# Altium schematic symbol library kmilo17pet-TI_LDO_400_7500.SchLib: 1409 symbols (part 6 of 60)
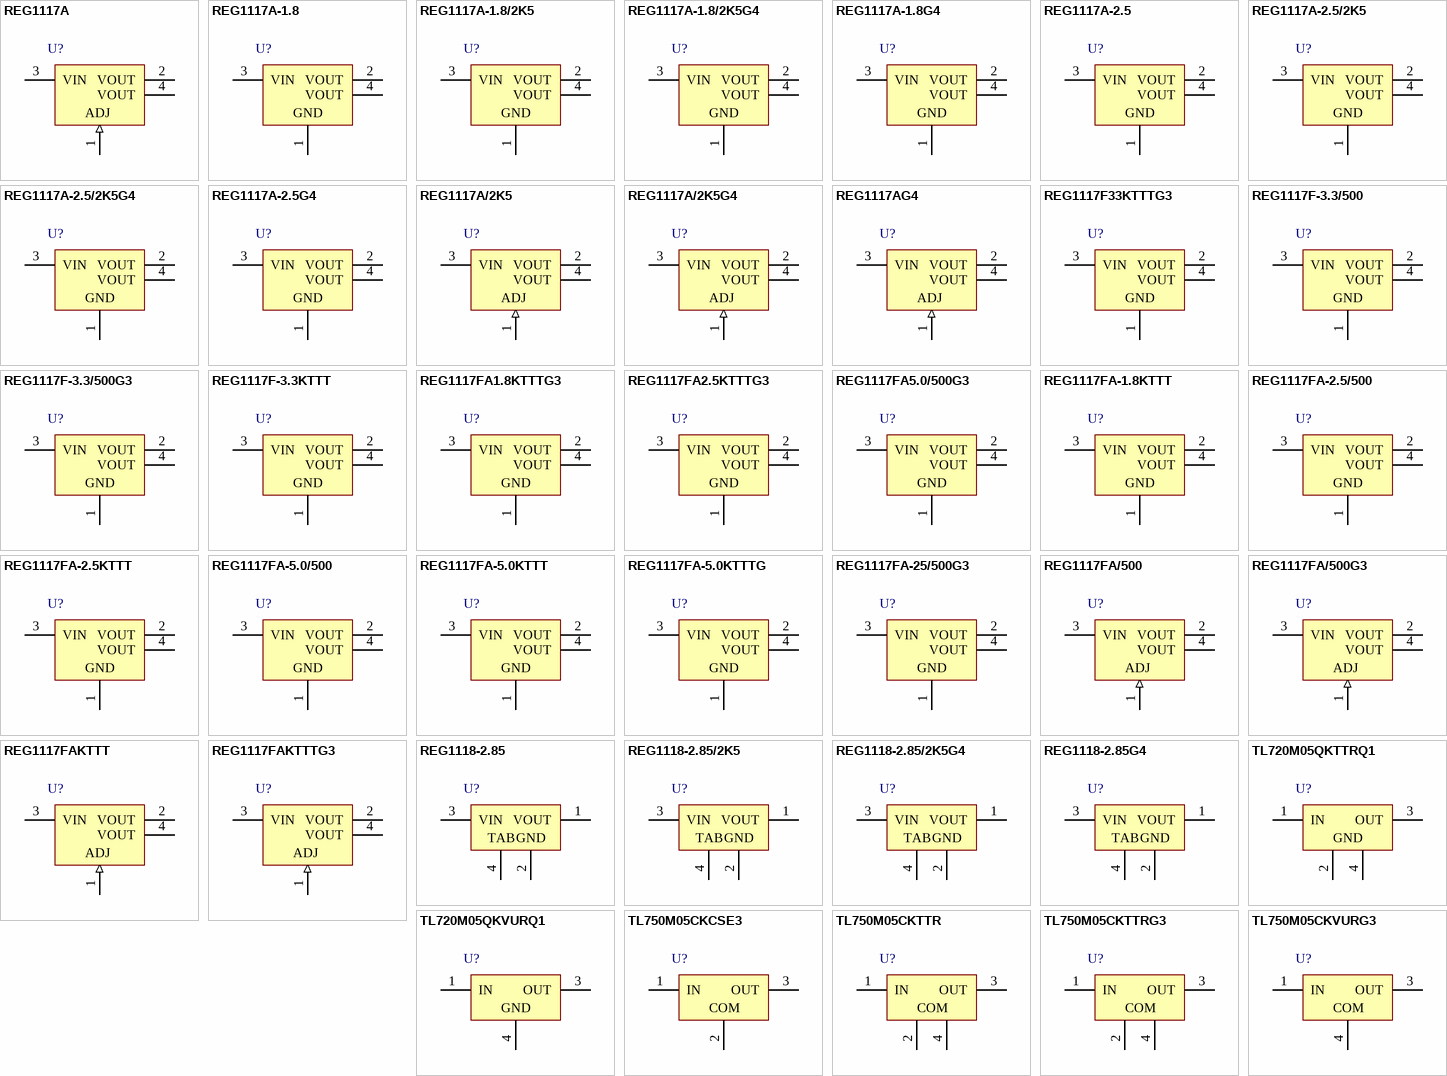
[diagram p55: symbols REG1117A to TL750M05CKVURG3]

## TL720M05QKVURQ1
designator U?
Single Output Automotive LDO, 700 mA, Fixed 5 V Output, 5.5 to 42 V Input, 3-pin PFM (KVU), -40 to 125 degC, Green (RoHS & no Sb/Br); Manufacturer: Texas Instruments; PartNumber: TL720M05QKVURQ1; Accuracy(%): 3; Fixed Output Options(V): 5; Iout(Max)(A): 0.7; Iq(Typ)(mA): 12; SubFamily: Single Channel LDO; Vdo(Typ)(mV): 250; Vin(Max)(V): 42; Vin(Min)(V): 5.5; DatasheetVersion: SGLS380D; PackageVersion: 4205521-2/D; PackageReference: KVU3; PackageDescription: 3-Pin Plastic Flange Mount, Body 6.1 x 6.6 mm, Pitch 2.29 mm; Supplier 1: Digi-Key; Supplier Part Number 1: 296-24509-2-ND; Supplier 2: Digi-Key; Supplier Part Number 2: 296-24509-1-ND; Supplier 3: Digi-Key; Supplier Part Number 3: 296-24509-6-ND; Supplier 4: Newark; Supplier Part Number 4: 09R6518; Supplier 5: Mouser; Supplier Part Number 5: 595-TL720M05QKVURQ1; Eco-Plan: Green (RoHS & no Sb/Br); Vout Adj(Max)(V): 5; Vout Adj(Min)(V): 5; Mounting Technology: Surface Mount; Code_JEDEC: TO-252; ComponentLink1Description: Manufacturer URL; ComponentLink1URL: http://www.ti.com/; ComponentLink2Description: Datasheet; ComponentLink2URL: http://www.ti.com/general/docs/lit/getliterature.tsp?genericPartNumber=TL720M05-Q1&fileType=pdf; ComponentLink3Description: Package Specification; ComponentLink3URL: http://www.ti.com/litv/pdf/mpsf018c
footprint TI-KVU3_N (DPAK, 3-Leads, Body 6.6x6.1mm, Pitch 2.29mm, IPC Medium Density)
footprint TI-KVU3_L (DPAK, 3-Leads, Body 6.6x6.1mm, Pitch 2.29mm, IPC High Density)
footprint TI-KVU3_M (DPAK, 3-Leads, Body 6.6x6.1mm, Pitch 2.29mm, IPC Low Density)
pins: 1 IN (power) "Input voltage. Connect to ground as close to device as possible, through a ceramic capacitor.", 3 OUT (power) "Output. Connect to ground with >=22-uF capacitor, ESR < 5 Ohm at 10 kHz.", 4 GND (power) "Ground. Internally connected to heatsink"

## TL750M05CKCSE3
designator U?
Single Output LDO, 750 mA, Fixed 5 V Output, 6 to 26 V Input, with Low IQ, 3-pin TO-220 (KCS), 0 to 125 degC, Pb-Free (RoHS); Manufacturer: Texas Instruments; PartNumber: TL750M05CKCSE3; Accuracy(%): 2; Fixed Output Options(V): 5; Iout(Max)(A): 0.75; Iq(Typ)(mA): 60; Rating: Catalog; SubFamily: Single Channel LDO; Vdo(Typ)(mV): 600; Vin(Max)(V): 26; Vin(Min)(V): 6; DatasheetVersion: SLVS021N; PackageVersion: 4204749/E; PackageReference: KCS3; PackageDescription: 3-Pin Plastic Flange Mount; Supplier 1: Digi-Key; Supplier Part Number 1: 296-21594-5-ND; Supplier 2: Newark; Supplier Part Number 2: 10M0609; Supplier 3: Mouser; Supplier Part Number 3: 595-TL750M05CKCSE3; Eco-Plan: Pb-Free (RoHS); Vout Adj(Max)(V): 5; Vout Adj(Min)(V): 5; Mounting Technology: Through Hole; Code_JEDEC: TO-220; ComponentLink1Description: Manufacturer URL; ComponentLink1URL: http://www.ti.com/; ComponentLink2Description: Datasheet; ComponentLink2URL: http://www.ti.com/general/docs/lit/getliterature.tsp?genericPartNumber=TL750M05&fileType=pdf; ComponentLink3Description: Package Specification; ComponentLink3URL: http://www.ti.com/litv/pdf/mpsf017d; ComponentLink4Description: URL Link1; ComponentLink4URL: Samples URL:http://www.ti.com/product/tl750m05#samples
footprint TI-KCS3 (Flange Mount, 3-Leads, Body 10.16x4.51mm, Pitch 2.54mm)
pins: 1 IN (power), 2 COM (power), 3 OUT (power)

## TL750M05CKTTR
designator U?
Single Output LDO, 750 mA, Fixed 5 V Output, 6 to 26 V Input, with Low IQ, 3-pin DDPAK (KTT), 0 to 125 degC, Green (RoHS & no Sb/Br); Manufacturer: Texas Instruments; PartNumber: TL750M05CKTTR; Accuracy(%): 2; Fixed Output Options(V): 5; Iout(Max)(A): 0.75; Iq(Typ)(mA): 60; Rating: Catalog; SubFamily: Single Channel LDO; Vdo(Typ)(mV): 600; Vin(Max)(V): 26; Vin(Min)(V): 6; DatasheetVersion: SLVS021N; PackageVersion: 4200577-2/F; PackageReference: KTT3; PackageDescription: 3-Pin Plastic Flange Mount, Body 10.16 x 10.43 mm, Pitch 2.54 mm; Supplier 1: Digi-Key; Supplier Part Number 1: 296-20776-2-ND; Supplier 2: Digi-Key; Supplier Part Number 2: 296-20776-1-ND; Supplier 3: Digi-Key; Supplier Part Number 3: 296-20776-6-ND; Supplier 4: Newark; Supplier Part Number 4: 18M3189; Supplier 5: Mouser; Supplier Part Number 5: 595-TL750M05CKTTR; Eco-Plan: Green (RoHS & no Sb/Br); Vout Adj(Max)(V): 5; Vout Adj(Min)(V): 5; Mounting Technology: Surface Mount; Code_JEDEC: TO-263; ComponentLink1Description: Manufacturer URL; ComponentLink1URL: http://www.ti.com/; ComponentLink2Description: Datasheet; ComponentLink2URL: http://www.ti.com/general/docs/lit/getliterature.tsp?genericPartNumber=TL750M05&fileType=pdf; ComponentLink3Description: Package Specification; ComponentLink3URL: http://www.ti.com/litv/pdf/mpsf006e; ComponentLink4Description: URL Link1; ComponentLink4URL: Samples URL:http://www.ti.com/product/tl750m05#samples
footprint TI-KTT3_N (DPAK, 3-Leads, Body 10.16x9.015mm, Pitch 2.54mm, IPC Medium Density)
footprint TI-KTT3_L (DPAK, 3-Leads, Body 10.16x9.015mm, Pitch 2.54mm, IPC High Density)
footprint TI-KTT3_M (DPAK, 3-Leads, Body 10.16x9.015mm, Pitch 2.54mm, IPC Low Density)
pins: 1 IN (power), 2 COM (power), 3 OUT (power), 4 COM (power)

## TL750M05CKTTRG3
designator U?
Single Output LDO, 750 mA, Fixed 5 V Output, 6 to 26 V Input, with Low IQ, 3-pin DDPAK (KTT), 0 to 125 degC, Green (RoHS & no Sb/Br); Manufacturer: Texas Instruments; PartNumber: TL750M05CKTTRG3; Accuracy(%): 2; Fixed Output Options(V): 5; Iout(Max)(A): 0.75; Iq(Typ)(mA): 60; Rating: Catalog; SubFamily: Single Channel LDO; Vdo(Typ)(mV): 600; Vin(Max)(V): 26; Vin(Min)(V): 6; DatasheetVersion: SLVS021N; PackageVersion: 4200577-2/F; PackageReference: KTT3; PackageDescription: 3-Pin Plastic Flange Mount, Body 10.16 x 10.43 mm, Pitch 2.54 mm; Supplier 1: Digi-Key; Supplier Part Number 1: TL750M05CKTTRG3-ND; Supplier 2: Mouser; Supplier Part Number 2: 595-TL750M05CKTTRG3; Eco-Plan: Green (RoHS & no Sb/Br); Vout Adj(Max)(V): 5; Vout Adj(Min)(V): 5; Mounting Technology: Surface Mount; Code_JEDEC: TO-263; ComponentLink1Description: Manufacturer URL; ComponentLink1URL: http://www.ti.com/; ComponentLink2Description: Datasheet; ComponentLink2URL: http://www.ti.com/general/docs/lit/getliterature.tsp?genericPartNumber=TL750M05&fileType=pdf; ComponentLink3Description: Package Specification; ComponentLink3URL: http://www.ti.com/litv/pdf/mpsf006e; ComponentLink4Description: URL Link1; ComponentLink4URL: Samples URL:http://www.ti.com/product/tl750m05#samples
footprint TI-KTT3_N (DPAK, 3-Leads, Body 10.16x9.015mm, Pitch 2.54mm, IPC Medium Density)
footprint TI-KTT3_L (DPAK, 3-Leads, Body 10.16x9.015mm, Pitch 2.54mm, IPC High Density)
footprint TI-KTT3_M (DPAK, 3-Leads, Body 10.16x9.015mm, Pitch 2.54mm, IPC Low Density)
pins: 1 IN (power), 2 COM (power), 3 OUT (power), 4 COM (power)

## TL750M05CKVURG3
designator U?
Single Output LDO, 750 mA, Fixed 5 V Output, 6 to 26 V Input, with Low IQ, 3-pin PFM (KVU), 0 to 125 degC, Green (RoHS & no Sb/Br); Manufacturer: Texas Instruments; PartNumber: TL750M05CKVURG3; Accuracy(%): 2; Fixed Output Options(V): 5; Iout(Max)(A): 0.75; Iq(Typ)(mA): 60; Rating: Catalog; SubFamily: Single Channel LDO; Vdo(Typ)(mV): 600; Vin(Max)(V): 26; Vin(Min)(V): 6; DatasheetVersion: SLVS021N; PackageVersion: 4205521-2/D; PackageReference: KVU3; PackageDescription: 3-Pin Plastic Flange Mount, Body 6.1 x 6.6 mm, Pitch 2.29 mm; Supplier 1: Digi-Key; Supplier Part Number 1: 296-21595-2-ND; Supplier 2: Digi-Key; Supplier Part Number 2: 296-21595-1-ND; Supplier 3: Digi-Key; Supplier Part Number 3: 296-21595-6-ND; Supplier 4: Newark; Supplier Part Number 4: 10M0610; Supplier 5: Mouser; Supplier Part Number 5: 595-TL750M05CKVURG3; Eco-Plan: Green (RoHS & no Sb/Br); Vout Adj(Max)(V): 5; Vout Adj(Min)(V): 5; Mounting Technology: Surface Mount; Code_JEDEC: TO-252; ComponentLink1Description: Manufacturer URL; ComponentLink1URL: http://www.ti.com/; ComponentLink2Description: Datasheet; ComponentLink2URL: http://www.ti.com/general/docs/lit/getliterature.tsp?genericPartNumber=TL750M05&fileType=pdf; ComponentLink3Description: Package Specification; ComponentLink3URL: http://www.ti.com/litv/pdf/mpsf018c; ComponentLink4Description: URL Link1; ComponentLink4URL: Samples URL:http://www.ti.com/product/tl750m05#samples
footprint TI-KVU3_N (DPAK, 3-Leads, Body 6.6x6.1mm, Pitch 2.29mm, IPC Medium Density)
footprint TI-KVU3_L (DPAK, 3-Leads, Body 6.6x6.1mm, Pitch 2.29mm, IPC High Density)
footprint TI-KVU3_M (DPAK, 3-Leads, Body 6.6x6.1mm, Pitch 2.29mm, IPC Low Density)
pins: 1 IN (power), 3 OUT (power), 4 COM (power)

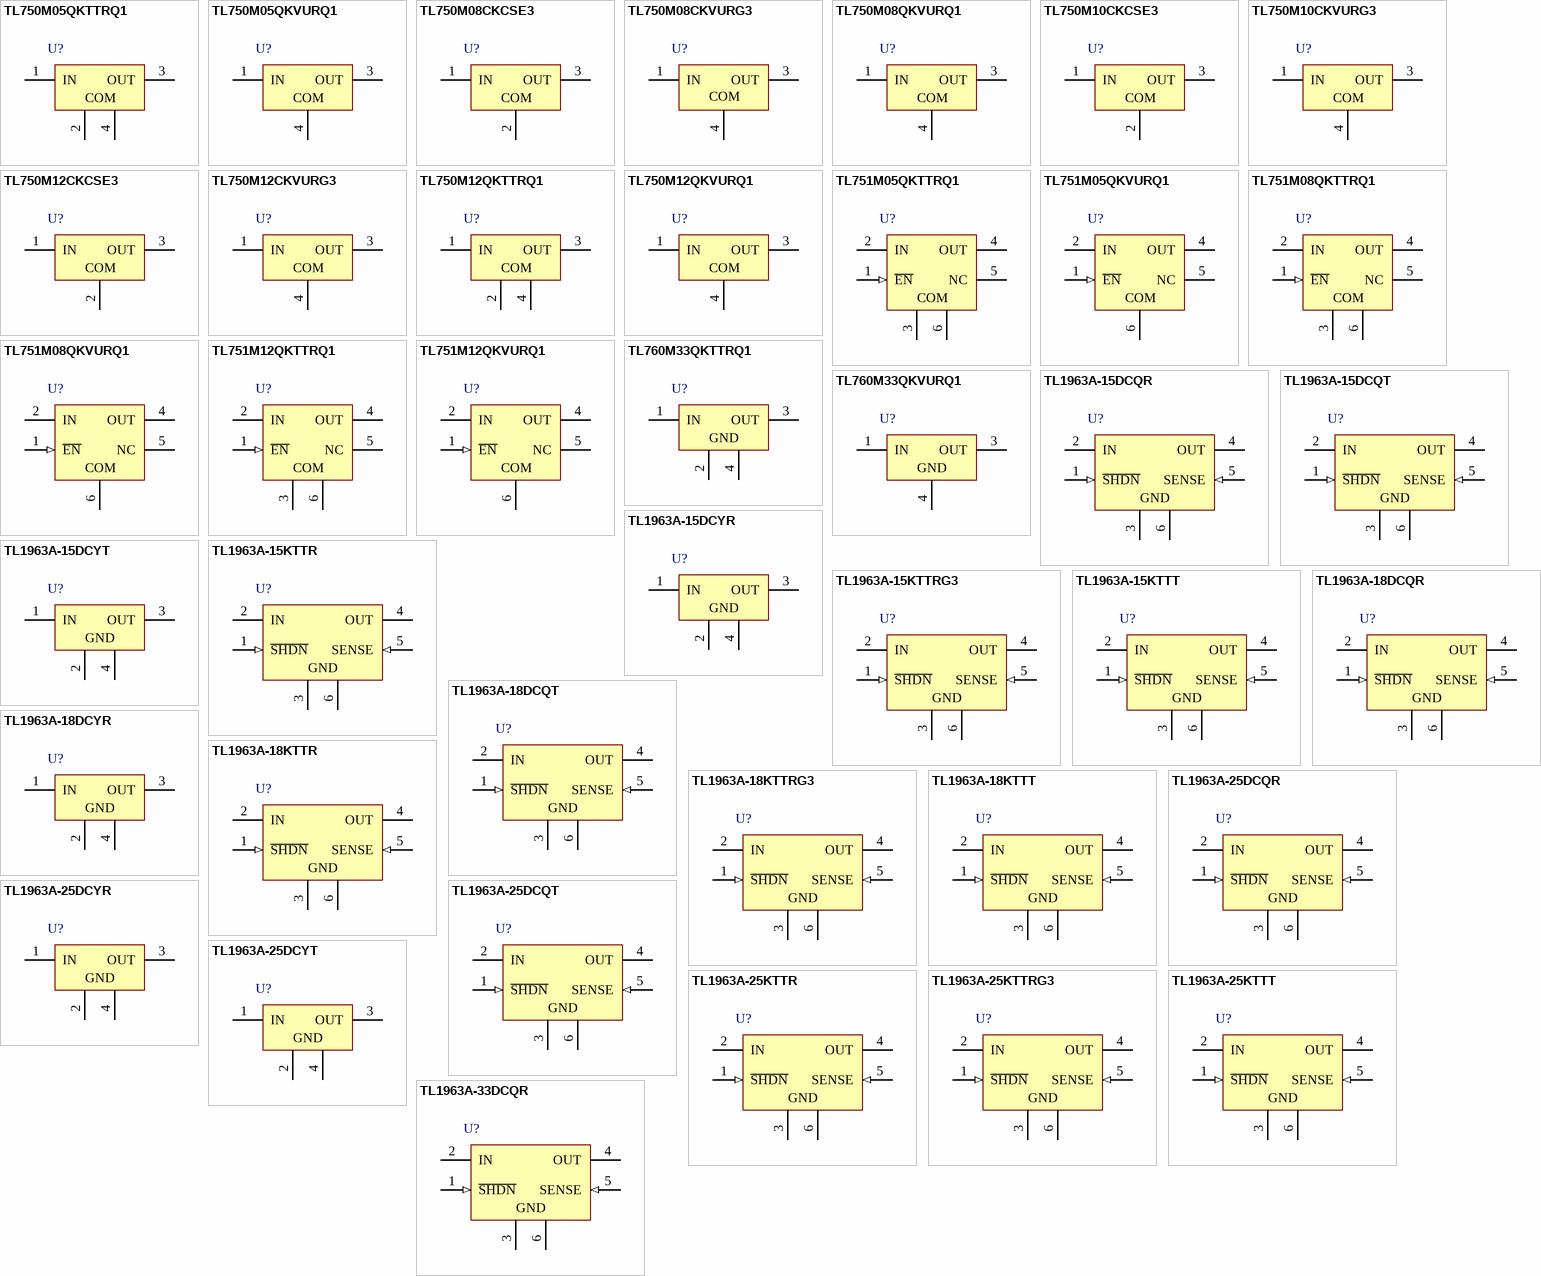
[diagram p4: symbols TL750M05QKTTRQ1 to TL1963A-33DCQR]

## TL750M05QKTTRQ1
designator U?
Single Output Automotive LDO, 750 mA, Fixed 5 V Output, 6 to 26 V Input, with Low IQ, 3-pin DDPAK (KTT), -40 to 125 degC, Green (RoHS & no Sb/Br); Manufacturer: Texas Instruments; PartNumber: TL750M05QKTTRQ1; Iout(Max)(A): 0.75; Iq(Typ)(mA): 60; SubFamily: Single Channel LDO; Vdo(Typ)(mV): 600; Vin(Max)(V): 26; Vin(Min)(V): 6; Vout Adj(Max)(V): 5; DatasheetVersion: SGLS312J; PackageVersion: 4200577-2/F; PackageReference: KTT3; PackageDescription: 3-Pin Plastic Flange Mount, Body 10.16 x 10.43 mm, Pitch 2.54 mm; Supplier 1: Digi-Key; Supplier Part Number 1: 296-31951-2-ND; Supplier 2: Digi-Key; Supplier Part Number 2: 296-31951-1-ND; Supplier 3: Digi-Key; Supplier Part Number 3: 296-31951-6-ND; Supplier 4: Mouser; Supplier Part Number 4: 595-TL750M05QKTTRQ1; Eco-Plan: Green (RoHS & no Sb/Br); Rating: Automotive; Vout Adj(Min)(V): 5; Mounting Technology: Surface Mount; Code_JEDEC: TO-263; ComponentLink1Description: Manufacturer URL; ComponentLink1URL: http://www.ti.com/; ComponentLink2Description: Datasheet; ComponentLink2URL: http://www.ti.com/general/docs/lit/getliterature.tsp?genericPartNumber=TL750M05-Q1&fileType=pdf; ComponentLink3Description: Package Specification; ComponentLink3URL: http://www.ti.com/litv/pdf/mpsf006e; ComponentLink4Description: URL Link1; ComponentLink4URL: Samples URL:http://www.ti.com/product/tl750m05-q1#samples
footprint TI-KTT3_N (DPAK, 3-Leads, Body 10.16x9.015mm, Pitch 2.54mm, IPC Medium Density)
footprint TI-KTT3_L (DPAK, 3-Leads, Body 10.16x9.015mm, Pitch 2.54mm, IPC High Density)
footprint TI-KTT3_M (DPAK, 3-Leads, Body 10.16x9.015mm, Pitch 2.54mm, IPC Low Density)
pins: 1 IN (power), 2 COM (power), 3 OUT (power), 4 COM (power)

## TL750M05QKVURQ1
designator U?
Single Output Automotive LDO, 750 mA, Fixed 5 V Output, 6 to 26 V Input, with Low IQ, 3-pin PFM (KVU), -40 to 125 degC, Green (RoHS & no Sb/Br); Manufacturer: Texas Instruments; PartNumber: TL750M05QKVURQ1; Iout(Max)(A): 0.75; Iq(Typ)(mA): 60; SubFamily: Single Channel LDO; Vdo(Typ)(mV): 600; Vin(Max)(V): 26; Vin(Min)(V): 6; Vout Adj(Max)(V): 5; DatasheetVersion: SGLS312J; PackageVersion: 4205521-2/D; PackageReference: KVU3; PackageDescription: 3-Pin Plastic Flange Mount, Body 6.1 x 6.6 mm, Pitch 2.29 mm; Supplier 1: Digi-Key; Supplier Part Number 1: 296-27381-2-ND; Supplier 2: Digi-Key; Supplier Part Number 2: 296-27381-1-ND; Supplier 3: Digi-Key; Supplier Part Number 3: 296-27381-6-ND; Supplier 4: Newark; Supplier Part Number 4: 72R6605; Supplier 5: Mouser; Supplier Part Number 5: 595-TL750M05QKVURQ1; Eco-Plan: Green (RoHS & no Sb/Br); Rating: Automotive; Vout Adj(Min)(V): 5; Mounting Technology: Surface Mount; Code_JEDEC: TO-252; ComponentLink1Description: Manufacturer URL; ComponentLink1URL: http://www.ti.com/; ComponentLink2Description: Datasheet; ComponentLink2URL: http://www.ti.com/general/docs/lit/getliterature.tsp?genericPartNumber=TL750M05-Q1&fileType=pdf; ComponentLink3Description: Package Specification; ComponentLink3URL: http://www.ti.com/litv/pdf/mpsf018c; ComponentLink4Description: URL Link1; ComponentLink4URL: Samples URL:http://www.ti.com/product/tl750m05-q1#samples
footprint TI-KVU3_N (DPAK, 3-Leads, Body 6.6x6.1mm, Pitch 2.29mm, IPC Medium Density)
footprint TI-KVU3_L (DPAK, 3-Leads, Body 6.6x6.1mm, Pitch 2.29mm, IPC High Density)
footprint TI-KVU3_M (DPAK, 3-Leads, Body 6.6x6.1mm, Pitch 2.29mm, IPC Low Density)
pins: 1 IN (power), 3 OUT (power), 4 COM (power)

## TL750M08CKCSE3
designator U?
Single Output LDO, 750 mA, Fixed 8 V Output, 9 to 26 V Input, with Low IQ, 3-pin TO-220 (KCS), 0 to 125 degC, Pb-Free (RoHS); Manufacturer: Texas Instruments; PartNumber: TL750M08CKCSE3; Accuracy(%): 2; Fixed Output Options(V): 8; Iout(Max)(A): 0.75; Iq(Typ)(mA): 60; Rating: Catalog; SubFamily: Single Channel LDO; Vdo(Typ)(mV): 600; Vin(Max)(V): 26; Vin(Min)(V): 9; DatasheetVersion: SLVS021N; PackageVersion: 4204749/E; PackageReference: KCS3; PackageDescription: 3-Pin Plastic Flange Mount; Supplier 1: Digi-Key; Supplier Part Number 1: 296-21596-5-ND; Supplier 2: Newark; Supplier Part Number 2: 10M0611; Supplier 3: Mouser; Supplier Part Number 3: 595-TL750M08CKCSE3; Eco-Plan: Pb-Free (RoHS); Vout Adj(Max)(V): 8; Vout Adj(Min)(V): 8; Mounting Technology: Through Hole; Code_JEDEC: TO-220; ComponentLink1Description: Manufacturer URL; ComponentLink1URL: http://www.ti.com/; ComponentLink2Description: Datasheet; ComponentLink2URL: http://www.ti.com/general/docs/lit/getliterature.tsp?genericPartNumber=TL750M08&fileType=pdf; ComponentLink3Description: Package Specification; ComponentLink3URL: http://www.ti.com/litv/pdf/mpsf017d; ComponentLink4Description: URL Link1; ComponentLink4URL: Samples URL:http://www.ti.com/product/tl750m08#samples
footprint TI-KCS3 (Flange Mount, 3-Leads, Body 10.16x4.51mm, Pitch 2.54mm)
pins: 1 IN (power), 2 COM (power), 3 OUT (power)

## TL750M08CKVURG3
designator U?
Single Output LDO, 750 mA, Fixed 8 V Output, 9 to 26 V Input, with Low IQ, 3-pin PFM (KVU), 0 to 125 degC, Green (RoHS & no Sb/Br); Manufacturer: Texas Instruments; PartNumber: TL750M08CKVURG3; Accuracy(%): 2; Fixed Output Options(V): 8; Iout(Max)(A): 0.75; Iq(Typ)(mA): 60; Rating: Catalog; SubFamily: Single Channel LDO; Vdo(Typ)(mV): 600; Vin(Max)(V): 26; Vin(Min)(V): 9; DatasheetVersion: SLVS021N; PackageVersion: 4205521-2/D; PackageReference: KVU3; PackageDescription: 3-Pin Plastic Flange Mount, Body 6.1 x 6.6 mm, Pitch 2.29 mm; Supplier 1: Digi-Key; Supplier Part Number 1: 296-21597-2-ND; Supplier 2: Digi-Key; Supplier Part Number 2: 296-21597-1-ND; Supplier 3: Digi-Key; Supplier Part Number 3: 296-21597-6-ND; Supplier 4: Mouser; Supplier Part Number 4: 595-TL750M08CKVURG3; Eco-Plan: Green (RoHS & no Sb/Br); Vout Adj(Max)(V): 8; Vout Adj(Min)(V): 8; Mounting Technology: Surface Mount; Code_JEDEC: TO-252; ComponentLink1Description: Manufacturer URL; ComponentLink1URL: http://www.ti.com/; ComponentLink2Description: Datasheet; ComponentLink2URL: http://www.ti.com/general/docs/lit/getliterature.tsp?genericPartNumber=TL750M08&fileType=pdf; ComponentLink3Description: Package Specification; ComponentLink3URL: http://www.ti.com/litv/pdf/mpsf018c; ComponentLink4Description: URL Link1; ComponentLink4URL: Samples URL:http://www.ti.com/product/tl750m08#samples
footprint TI-KVU3_N (DPAK, 3-Leads, Body 6.6x6.1mm, Pitch 2.29mm, IPC Medium Density)
footprint TI-KVU3_L (DPAK, 3-Leads, Body 6.6x6.1mm, Pitch 2.29mm, IPC High Density)
footprint TI-KVU3_M (DPAK, 3-Leads, Body 6.6x6.1mm, Pitch 2.29mm, IPC Low Density)
pins: 1 IN (power), 3 OUT (power), 4 COM (power)

## TL750M08QKVURQ1
designator U?
Single Output Automotive LDO, 750 mA, Fixed 8 V Output, 9 to 26 V Input, with Low IQ, 3-pin PFM (KVU), -40 to 125 degC, Green (RoHS & no Sb/Br); Manufacturer: Texas Instruments; PartNumber: TL750M08QKVURQ1; Fixed Output Options(V): 8; Iout(Max)(A): 0.75; Iq(Typ)(mA): 60; SubFamily: Single Channel LDO; Vdo(Typ)(mV): 600; Vin(Max)(V): 26; Vin(Min)(V): 9; DatasheetVersion: SGLS312J; PackageVersion: 4205521-2/D; PackageReference: KVU3; PackageDescription: 3-Pin Plastic Flange Mount, Body 6.1 x 6.6 mm, Pitch 2.29 mm; Supplier 1: Digi-Key; Supplier Part Number 1: 296-27382-2-ND; Supplier 2: Digi-Key; Supplier Part Number 2: 296-27382-1-ND; Supplier 3: Digi-Key; Supplier Part Number 3: 296-27382-6-ND; Supplier 4: Newark; Supplier Part Number 4: 72R6606; Supplier 5: Mouser; Supplier Part Number 5: 595-TL750M08QKVURQ1; Eco-Plan: Green (RoHS & no Sb/Br); Rating: Automotive; Vout Adj(Max)(V): 8; Vout Adj(Min)(V): 8; Mounting Technology: Surface Mount; Code_JEDEC: TO-252; ComponentLink1Description: Manufacturer URL; ComponentLink1URL: http://www.ti.com/; ComponentLink2Description: Datasheet; ComponentLink2URL: http://www.ti.com/general/docs/lit/getliterature.tsp?genericPartNumber=TL750M08-Q1&fileType=pdf; ComponentLink3Description: Package Specification; ComponentLink3URL: http://www.ti.com/litv/pdf/mpsf018c; ComponentLink4Description: URL Link1; ComponentLink4URL: Samples URL:http://www.ti.com/product/tl750m08-q1#samples
footprint TI-KVU3_N (DPAK, 3-Leads, Body 6.6x6.1mm, Pitch 2.29mm, IPC Medium Density)
footprint TI-KVU3_L (DPAK, 3-Leads, Body 6.6x6.1mm, Pitch 2.29mm, IPC High Density)
footprint TI-KVU3_M (DPAK, 3-Leads, Body 6.6x6.1mm, Pitch 2.29mm, IPC Low Density)
pins: 1 IN (power), 3 OUT (power), 4 COM (power)

## TL750M10CKCSE3
designator U?
Single Output LDO, 750 mA, Fixed 10 V Output, 11 to 26 V Input, with Low IQ, 3-pin TO-220 (KCS), 0 to 125 degC, Pb-Free (RoHS); Manufacturer: Texas Instruments; PartNumber: TL750M10CKCSE3; Accuracy(%): 2; Fixed Output Options(V): 10; Iout(Max)(A): 0.75; Iq(Typ)(mA): 60; Rating: Catalog; SubFamily: Single Channel LDO; Vdo(Typ)(mV): 600; Vin(Max)(V): 26; Vin(Min)(V): 11; DatasheetVersion: SLVS021N; PackageVersion: 4204749/E; PackageReference: KCS3; PackageDescription: 3-Pin Plastic Flange Mount; Supplier 1: Digi-Key; Supplier Part Number 1: 296-21598-5-ND; Supplier 2: Newark; Supplier Part Number 2: 99K4384; Supplier 3: Mouser; Supplier Part Number 3: 595-TL750M10CKCSE3; Eco-Plan: Pb-Free (RoHS); Vout Adj(Max)(V): 10; Vout Adj(Min)(V): 10; Mounting Technology: Through Hole; Code_JEDEC: TO-220; ComponentLink1Description: Manufacturer URL; ComponentLink1URL: http://www.ti.com/; ComponentLink2Description: Datasheet; ComponentLink2URL: http://www.ti.com/general/docs/lit/getliterature.tsp?genericPartNumber=TL750M10&fileType=pdf; ComponentLink3Description: Package Specification; ComponentLink3URL: http://www.ti.com/litv/pdf/mpsf017d; ComponentLink4Description: URL Link1; ComponentLink4URL: Samples URL:http://www.ti.com/product/tl750m10#samples
footprint TI-KCS3 (Flange Mount, 3-Leads, Body 10.16x4.51mm, Pitch 2.54mm)
pins: 1 IN (power), 2 COM (power), 3 OUT (power)

## TL750M10CKVURG3
designator U?
Single Output LDO, 750 mA, Fixed 10 V Output, 11 to 26 V Input, with Low IQ, 3-pin PFM (KVU), 0 to 125 degC, Green (RoHS & no Sb/Br); Manufacturer: Texas Instruments; PartNumber: TL750M10CKVURG3; Accuracy(%): 2; Fixed Output Options(V): 10; Iout(Max)(A): 0.75; Iq(Typ)(mA): 60; Rating: Catalog; SubFamily: Single Channel LDO; Vdo(Typ)(mV): 600; Vin(Max)(V): 26; Vin(Min)(V): 11; DatasheetVersion: SLVS021N; PackageVersion: 4205521-2/D; PackageReference: KVU3; PackageDescription: 3-Pin Plastic Flange Mount, Body 6.1 x 6.6 mm, Pitch 2.29 mm; Supplier 1: Digi-Key; Supplier Part Number 1: 296-21599-2-ND; Supplier 2: Digi-Key; Supplier Part Number 2: 296-21599-1-ND; Supplier 3: Digi-Key; Supplier Part Number 3: 296-21599-6-ND; Supplier 4: Newark; Supplier Part Number 4: 99K4385; Supplier 5: Mouser; Supplier Part Number 5: 595-TL750M10CKVURG3; Eco-Plan: Green (RoHS & no Sb/Br); Vout Adj(Max)(V): 10; Vout Adj(Min)(V): 10; Mounting Technology: Surface Mount; Code_JEDEC: TO-252; ComponentLink1Description: Manufacturer URL; ComponentLink1URL: http://www.ti.com/; ComponentLink2Description: Datasheet; ComponentLink2URL: http://www.ti.com/general/docs/lit/getliterature.tsp?genericPartNumber=TL750M10&fileType=pdf; ComponentLink3Description: Package Specification; ComponentLink3URL: http://www.ti.com/litv/pdf/mpsf018c; ComponentLink4Description: URL Link1; ComponentLink4URL: Samples URL:http://www.ti.com/product/tl750m10#samples
footprint TI-KVU3_N (DPAK, 3-Leads, Body 6.6x6.1mm, Pitch 2.29mm, IPC Medium Density)
footprint TI-KVU3_L (DPAK, 3-Leads, Body 6.6x6.1mm, Pitch 2.29mm, IPC High Density)
footprint TI-KVU3_M (DPAK, 3-Leads, Body 6.6x6.1mm, Pitch 2.29mm, IPC Low Density)
pins: 1 IN (power), 3 OUT (power), 4 COM (power)

## TL750M12CKCSE3
designator U?
Single Output LDO, 750 mA, Fixed 12 V Output, 13 to 26 V Input, with Low IQ, 3-pin TO-220 (KCS), 0 to 125 degC, Pb-Free (RoHS); Manufacturer: Texas Instruments; PartNumber: TL750M12CKCSE3; Accuracy(%): 2; Fixed Output Options(V): 12; Iout(Max)(A): 0.75; Iq(Typ)(mA): 60; Rating: Catalog; SubFamily: Single Channel LDO; Vdo(Typ)(mV): 600; Vin(Max)(V): 26; Vin(Min)(V): 13; DatasheetVersion: SLVS021N; PackageVersion: 4204749/E; PackageReference: KCS3; PackageDescription: 3-Pin Plastic Flange Mount; Supplier 1: Digi-Key; Supplier Part Number 1: 296-21600-5-ND; Supplier 2: Newark; Supplier Part Number 2: 10M0613; Supplier 3: Mouser; Supplier Part Number 3: 595-TL750M12CKCSE3; Eco-Plan: Pb-Free (RoHS); Vout Adj(Max)(V): 12; Vout Adj(Min)(V): 12; Mounting Technology: Through Hole; Code_JEDEC: TO-220; ComponentLink1Description: Manufacturer URL; ComponentLink1URL: http://www.ti.com/; ComponentLink2Description: Datasheet; ComponentLink2URL: http://www.ti.com/general/docs/lit/getliterature.tsp?genericPartNumber=TL750M12&fileType=pdf; ComponentLink3Description: Package Specification; ComponentLink3URL: http://www.ti.com/litv/pdf/mpsf017d; ComponentLink4Description: URL Link1; ComponentLink4URL: Samples URL:http://www.ti.com/product/tl750m12#samples
footprint TI-KCS3 (Flange Mount, 3-Leads, Body 10.16x4.51mm, Pitch 2.54mm)
pins: 1 IN (power), 2 COM (power), 3 OUT (power)

## TL750M12CKVURG3
designator U?
Single Output LDO, 750 mA, Fixed 12 V Output, 13 to 26 V Input, with Low IQ, 3-pin PFM (KVU), 0 to 125 degC, Green (RoHS & no Sb/Br); Manufacturer: Texas Instruments; PartNumber: TL750M12CKVURG3; Accuracy(%): 2; Fixed Output Options(V): 12; Iout(Max)(A): 0.75; Iq(Typ)(mA): 60; Rating: Catalog; SubFamily: Single Channel LDO; Vdo(Typ)(mV): 600; Vin(Max)(V): 26; Vin(Min)(V): 13; DatasheetVersion: SLVS021N; PackageVersion: 4205521-2/D; PackageReference: KVU3; PackageDescription: 3-Pin Plastic Flange Mount, Body 6.1 x 6.6 mm, Pitch 2.29 mm; Supplier 1: Digi-Key; Supplier Part Number 1: 296-21601-2-ND; Supplier 2: Digi-Key; Supplier Part Number 2: 296-21601-1-ND; Supplier 3: Digi-Key; Supplier Part Number 3: 296-21601-6-ND; Supplier 4: Newark; Supplier Part Number 4: 10M0614; Supplier 5: Mouser; Supplier Part Number 5: 595-TL750M12CKVURG3; Eco-Plan: Green (RoHS & no Sb/Br); Vout Adj(Max)(V): 12; Vout Adj(Min)(V): 12; Mounting Technology: Surface Mount; Code_JEDEC: TO-252; ComponentLink1Description: Manufacturer URL; ComponentLink1URL: http://www.ti.com/; ComponentLink2Description: Datasheet; ComponentLink2URL: http://www.ti.com/general/docs/lit/getliterature.tsp?genericPartNumber=TL750M12&fileType=pdf; ComponentLink3Description: Package Specification; ComponentLink3URL: http://www.ti.com/litv/pdf/mpsf018c; ComponentLink4Description: URL Link1; ComponentLink4URL: Samples URL:http://www.ti.com/product/tl750m12#samples
footprint TI-KVU3_N (DPAK, 3-Leads, Body 6.6x6.1mm, Pitch 2.29mm, IPC Medium Density)
footprint TI-KVU3_L (DPAK, 3-Leads, Body 6.6x6.1mm, Pitch 2.29mm, IPC High Density)
footprint TI-KVU3_M (DPAK, 3-Leads, Body 6.6x6.1mm, Pitch 2.29mm, IPC Low Density)
pins: 1 IN (power), 3 OUT (power), 4 COM (power)

## TL750M12QKTTRQ1
designator U?
Single Output Automotive LDO, 750 mA, Fixed 12 V Output, 13 to 26 V Input, with Low IQ, 3-pin DDPAK (KTT), -40 to 125 degC, Green (RoHS & no Sb/Br); Manufacturer: Texas Instruments; PartNumber: TL750M12QKTTRQ1; Fixed Output Options(V): 12; Iout(Max)(A): 0.75; Iq(Typ)(mA): 60; SubFamily: Single Channel LDO; Vdo(Typ)(mV): 600; Vin(Max)(V): 26; Vin(Min)(V): 13; DatasheetVersion: SGLS312J; PackageVersion: 4200577-2/F; PackageReference: KTT3; PackageDescription: 3-Pin Plastic Flange Mount, Body 10.16 x 10.43 mm, Pitch 2.54 mm; Supplier 1: Digi-Key; Supplier Part Number 1: 296-27935-2-ND; Supplier 2: Digi-Key; Supplier Part Number 2: 296-27935-1-ND; Supplier 3: Digi-Key; Supplier Part Number 3: 296-27935-6-ND; Supplier 4: Mouser; Supplier Part Number 4: 595-TL750M12QKTTRQ1; Eco-Plan: Green (RoHS & no Sb/Br); Rating: Automotive; Vout Adj(Max)(V): 12; Vout Adj(Min)(V): 12; Mounting Technology: Surface Mount; Code_JEDEC: TO-263; ComponentLink1Description: Manufacturer URL; ComponentLink1URL: http://www.ti.com/; ComponentLink2Description: Datasheet; ComponentLink2URL: http://www.ti.com/general/docs/lit/getliterature.tsp?genericPartNumber=TL750M12-Q1&fileType=pdf; ComponentLink3Description: Package Specification; ComponentLink3URL: http://www.ti.com/litv/pdf/mpsf006e; ComponentLink4Description: URL Link1; ComponentLink4URL: Samples URL:http://www.ti.com/product/tl750m12-q1#samples
footprint TI-KTT3_N (DPAK, 3-Leads, Body 10.16x9.015mm, Pitch 2.54mm, IPC Medium Density)
footprint TI-KTT3_L (DPAK, 3-Leads, Body 10.16x9.015mm, Pitch 2.54mm, IPC High Density)
footprint TI-KTT3_M (DPAK, 3-Leads, Body 10.16x9.015mm, Pitch 2.54mm, IPC Low Density)
pins: 1 IN (power), 2 COM (power), 3 OUT (power), 4 COM (power)

## TL750M12QKVURQ1
designator U?
Single Output Automotive LDO, 750 mA, Fixed 12 V Output, 13 to 26 V Input, with Low IQ, 3-pin PFM (KVU), -40 to 125 degC, Green (RoHS & no Sb/Br); Manufacturer: Texas Instruments; PartNumber: TL750M12QKVURQ1; Fixed Output Options(V): 12; Iout(Max)(A): 0.75; Iq(Typ)(mA): 60; SubFamily: Single Channel LDO; Vdo(Typ)(mV): 600; Vin(Max)(V): 26; Vin(Min)(V): 13; DatasheetVersion: SGLS312J; PackageVersion: 4205521-2/D; PackageReference: KVU3; PackageDescription: 3-Pin Plastic Flange Mount, Body 6.1 x 6.6 mm, Pitch 2.29 mm; Supplier 1: Digi-Key; Supplier Part Number 1: 296-27429-2-ND; Supplier 2: Digi-Key; Supplier Part Number 2: 296-27429-1-ND; Supplier 3: Digi-Key; Supplier Part Number 3: 296-27429-6-ND; Supplier 4: Newark; Supplier Part Number 4: 79R8521; Supplier 5: Mouser; Supplier Part Number 5: 595-TL750M12QKVURQ1; Eco-Plan: Green (RoHS & no Sb/Br); Rating: Automotive; Vout Adj(Max)(V): 12; Vout Adj(Min)(V): 12; Mounting Technology: Surface Mount; Code_JEDEC: TO-252; ComponentLink1Description: Manufacturer URL; ComponentLink1URL: http://www.ti.com/; ComponentLink2Description: Datasheet; ComponentLink2URL: http://www.ti.com/general/docs/lit/getliterature.tsp?genericPartNumber=TL750M12-Q1&fileType=pdf; ComponentLink3Description: Package Specification; ComponentLink3URL: http://www.ti.com/litv/pdf/mpsf018c; ComponentLink4Description: URL Link1; ComponentLink4URL: Samples URL:http://www.ti.com/product/tl750m12-q1#samples
footprint TI-KVU3_N (DPAK, 3-Leads, Body 6.6x6.1mm, Pitch 2.29mm, IPC Medium Density)
footprint TI-KVU3_L (DPAK, 3-Leads, Body 6.6x6.1mm, Pitch 2.29mm, IPC High Density)
footprint TI-KVU3_M (DPAK, 3-Leads, Body 6.6x6.1mm, Pitch 2.29mm, IPC Low Density)
pins: 1 IN (power), 3 OUT (power), 4 COM (power)

## TL751M05QKTTRQ1
designator U?
Single Output Automotive LDO, 750 mA, Fixed 5 V Output, 6 to 26 V Input, 5-pin DDPAK (KTT), -40 to 125 degC, Green (RoHS & no Sb/Br); Manufacturer: Texas Instruments; PartNumber: TL751M05QKTTRQ1; Fixed Output Options(V): 5; Iout(Max)(A): 0.75; Iq(Typ)(mA): 60; SubFamily: Single Channel LDO; Vdo(Typ)(mV): 650; Vin(Max)(V): 26; Vin(Min)(V): 6; DatasheetVersion: SGLS312J; PackageVersion: 4200577-3/F; PackageReference: KTT5; PackageDescription: 3-Pin Plastic Flange Mount, Body 10.16 x 10.34 mm, Pitch 1.7 mm; Supplier 1: Digi-Key; Supplier Part Number 1: 296-23318-2-ND; Supplier 2: Digi-Key; Supplier Part Number 2: 296-23318-1-ND; Supplier 3: Digi-Key; Supplier Part Number 3: 296-23318-6-ND; Supplier 4: Newark; Supplier Part Number 4: 85M0157; Supplier 5: Mouser; Supplier Part Number 5: 595-TL751M05QKTTRQ1; Eco-Plan: Green (RoHS & no Sb/Br); Rating: Automotive; Vout Adj(Max)(V): 5; Vout Adj(Min)(V): 5; Mounting Technology: Surface Mount; Code_JEDEC: TO-263; ComponentLink1Description: Manufacturer URL; ComponentLink1URL: http://www.ti.com/; ComponentLink2Description: Datasheet; ComponentLink2URL: http://www.ti.com/general/docs/lit/getliterature.tsp?genericPartNumber=TL751M05-Q1&fileType=pdf; ComponentLink3Description: Package Specification; ComponentLink3URL: http://www.ti.com/litv/pdf/mpsf007e; ComponentLink4Description: URL Link1; ComponentLink4URL: Samples URL:http://www.ti.com/product/tl751m05-q1#samples
footprint TI-KTT5_N (DPAK, 5-Leads, Body 10.16x8.925mm, Pitch 1.7mm, IPC Medium Density)
footprint TI-KTT5_L (DPAK, 5-Leads, Body 10.16x8.925mm, Pitch 1.7mm, IPC High Density)
footprint TI-KTT5_M (DPAK, 5-Leads, Body 10.16x8.925mm, Pitch 1.7mm, IPC Low Density)
pins: 1 ~{EN} (in), 2 IN (power), 3 GND (power), 4 OUT (power), 5 NC, 6 GND (power)
text: COM

## TL751M05QKVURQ1
designator U?
Single Output Automotive LDO, 750 mA, Fixed 5 V Output, 6 to 26 V Input, 5-pin PFM (KVU), -40 to 125 degC, Green (RoHS & no Sb/Br); Manufacturer: Texas Instruments; PartNumber: TL751M05QKVURQ1; Fixed Output Options(V): 5; Iout(Max)(A): 0.75; Iq(Typ)(mA): 60; SubFamily: Single Channel LDO; Vdo(Typ)(mV): 650; Vin(Max)(V): 26; Vin(Min)(V): 6; DatasheetVersion: SGLS312J; PackageVersion: 4205521-3/D; PackageReference: KVU5; PackageDescription: 5-Pin Plastic Flange Mount, Body 6.1 x 6.6 mm, Pitch 1.14 mm; Supplier 1: Digi-Key; Supplier Part Number 1: 296-27708-2-ND; Supplier 2: Digi-Key; Supplier Part Number 2: 296-27708-1-ND; Supplier 3: Digi-Key; Supplier Part Number 3: 296-27708-6-ND; Supplier 4: Mouser; Supplier Part Number 4: 595-TL751M05QKVURQ1; Eco-Plan: Green (RoHS & no Sb/Br); Rating: Automotive; Vout Adj(Max)(V): 5; Vout Adj(Min)(V): 5; Mounting Technology: Surface Mount; Code_JEDEC: TO-252; ComponentLink1Description: Manufacturer URL; ComponentLink1URL: http://www.ti.com/; ComponentLink2Description: Datasheet; ComponentLink2URL: http://www.ti.com/general/docs/lit/getliterature.tsp?genericPartNumber=TL751M05-Q1&fileType=pdf; ComponentLink3Description: Package Specification; ComponentLink3URL: http://www.ti.com/lit/ml/mpsf019/mpsf019.pdf; ComponentLink4Description: URL Link1; ComponentLink4URL: Samples URL:http://www.ti.com/product/tl751m05-q1#samples
footprint TI-KVU5_N (DPAK, 5-Leads, Body 6.6x6.095mm, Pitch 1.14mm, IPC Medium Density)
footprint TI-KVU5_L (DPAK, 5-Leads, Body 6.6x6.095mm, Pitch 1.14mm, IPC High Density)
footprint TI-KVU5_M (DPAK, 5-Leads, Body 6.6x6.095mm, Pitch 1.14mm, IPC Low Density)
pins: 1 ~{EN} (in), 2 IN (power), 4 OUT (power), 5 NC, 6 COM (power)

## TL751M08QKTTRQ1
designator U?
Single Output Automotive LDO, 750 mA, Fixed 8 V Output, 9 to 26 V Input, 5-pin DDPAK (KTT), -40 to 125 degC, Green (RoHS & no Sb/Br); Manufacturer: Texas Instruments; PartNumber: TL751M08QKTTRQ1; Fixed Output Options(V): 8; Iout(Max)(A): 0.75; Iq(Typ)(mA): 60; SubFamily: Single Channel LDO; Vdo(Typ)(mV): 650; Vin(Max)(V): 26; Vin(Min)(V): 9; DatasheetVersion: SGLS312J; PackageVersion: 4200577-3/F; PackageReference: KTT5; PackageDescription: 3-Pin Plastic Flange Mount, Body 10.16 x 10.34 mm, Pitch 1.7 mm; Supplier 1: Digi-Key; Supplier Part Number 1: 296-23319-2-ND; Supplier 2: Digi-Key; Supplier Part Number 2: 296-23319-1-ND; Supplier 3: Digi-Key; Supplier Part Number 3: 296-23319-6-ND; Supplier 4: Mouser; Supplier Part Number 4: 595-TL751M08QKTTRQ1; Eco-Plan: Green (RoHS & no Sb/Br); Rating: Automotive; Vout Adj(Max)(V): 8; Vout Adj(Min)(V): 8; Mounting Technology: Surface Mount; Code_JEDEC: TO-263; ComponentLink1Description: Manufacturer URL; ComponentLink1URL: http://www.ti.com/; ComponentLink2Description: Datasheet; ComponentLink2URL: http://www.ti.com/general/docs/lit/getliterature.tsp?genericPartNumber=TL751M08-Q1&fileType=pdf; ComponentLink3Description: Package Specification; ComponentLink3URL: http://www.ti.com/litv/pdf/mpsf007e; ComponentLink4Description: URL Link1; ComponentLink4URL: Samples URL:http://www.ti.com/product/tl751m08-q1#samples
footprint TI-KTT5_N (DPAK, 5-Leads, Body 10.16x8.925mm, Pitch 1.7mm, IPC Medium Density)
footprint TI-KTT5_L (DPAK, 5-Leads, Body 10.16x8.925mm, Pitch 1.7mm, IPC High Density)
footprint TI-KTT5_M (DPAK, 5-Leads, Body 10.16x8.925mm, Pitch 1.7mm, IPC Low Density)
pins: 1 ~{EN} (in), 2 IN (power), 3 GND (power), 4 OUT (power), 5 NC, 6 GND (power)
text: COM

## TL751M08QKVURQ1
designator U?
Single Output Automotive LDO, 750 mA, Fixed 8 V Output, 9 to 26 V Input, 5-pin PFM (KVU), -40 to 125 degC, Green (RoHS & no Sb/Br); Manufacturer: Texas Instruments; PartNumber: TL751M08QKVURQ1; Fixed Output Options(V): 8; Iout(Max)(A): 0.75; Iq(Typ)(mA): 60; SubFamily: Single Channel LDO; Vdo(Typ)(mV): 650; Vin(Max)(V): 26; Vin(Min)(V): 9; DatasheetVersion: SGLS312J; PackageVersion: 4205521-3/D; PackageReference: KVU5; PackageDescription: 5-Pin Plastic Flange Mount, Body 6.1 x 6.6 mm, Pitch 1.14 mm; Supplier 1: Digi-Key; Supplier Part Number 1: 296-28078-2-ND; Supplier 2: Digi-Key; Supplier Part Number 2: 296-28078-1-ND; Supplier 3: Digi-Key; Supplier Part Number 3: 296-28078-6-ND; Supplier 4: Mouser; Supplier Part Number 4: 595-TL751M08QKVURQ1; Eco-Plan: Green (RoHS & no Sb/Br); Rating: Automotive; Vout Adj(Max)(V): 8; Vout Adj(Min)(V): 8; Mounting Technology: Surface Mount; Code_JEDEC: TO-252; ComponentLink1Description: Manufacturer URL; ComponentLink1URL: http://www.ti.com/; ComponentLink2Description: Datasheet; ComponentLink2URL: http://www.ti.com/general/docs/lit/getliterature.tsp?genericPartNumber=TL751M08-Q1&fileType=pdf; ComponentLink3Description: Package Specification; ComponentLink3URL: http://www.ti.com/lit/ml/mpsf019/mpsf019.pdf; ComponentLink4Description: URL Link1; ComponentLink4URL: Samples URL:http://www.ti.com/product/tl751m08-q1#samples
footprint TI-KVU5_N (DPAK, 5-Leads, Body 6.6x6.095mm, Pitch 1.14mm, IPC Medium Density)
footprint TI-KVU5_L (DPAK, 5-Leads, Body 6.6x6.095mm, Pitch 1.14mm, IPC High Density)
footprint TI-KVU5_M (DPAK, 5-Leads, Body 6.6x6.095mm, Pitch 1.14mm, IPC Low Density)
pins: 1 ~{EN} (in), 2 IN (power), 4 OUT (power), 5 NC, 6 COM (power)

## TL751M12QKTTRQ1
designator U?
Single Output Automotive LDO, 750 mA, Fixed 12 V Output, 13 to 26 V Input, 5-pin DDPAK (KTT), -40 to 125 degC, Green (RoHS & no Sb/Br); Manufacturer: Texas Instruments; PartNumber: TL751M12QKTTRQ1; Fixed Output Options(V): 12; Iout(Max)(A): 0.75; Iq(Typ)(mA): 60; SubFamily: Single Channel LDO; Vdo(Typ)(mV): 650; Vin(Max)(V): 26; Vin(Min)(V): 13; DatasheetVersion: SGLS312J; PackageVersion: 4200577-3/F; PackageReference: KTT5; PackageDescription: 3-Pin Plastic Flange Mount, Body 10.16 x 10.34 mm, Pitch 1.7 mm; Supplier 1: Digi-Key; Supplier Part Number 1: 296-27936-2-ND; Supplier 2: Digi-Key; Supplier Part Number 2: 296-27936-1-ND; Supplier 3: Digi-Key; Supplier Part Number 3: 296-27936-6-ND; Supplier 4: Mouser; Supplier Part Number 4: 595-TL751M12QKTTRQ1; Eco-Plan: Green (RoHS & no Sb/Br); Rating: Automotive; Vout Adj(Max)(V): 12; Vout Adj(Min)(V): 12; Mounting Technology: Surface Mount; Code_JEDEC: TO-263; ComponentLink1Description: Manufacturer URL; ComponentLink1URL: http://www.ti.com/; ComponentLink2Description: Datasheet; ComponentLink2URL: http://www.ti.com/general/docs/lit/getliterature.tsp?genericPartNumber=TL751M12-Q1&fileType=pdf; ComponentLink3Description: Package Specification; ComponentLink3URL: http://www.ti.com/litv/pdf/mpsf007e; ComponentLink4Description: URL Link1; ComponentLink4URL: Samples URL:http://www.ti.com/product/tl751m12-q1#samples
footprint TI-KTT5_N (DPAK, 5-Leads, Body 10.16x8.925mm, Pitch 1.7mm, IPC Medium Density)
footprint TI-KTT5_L (DPAK, 5-Leads, Body 10.16x8.925mm, Pitch 1.7mm, IPC High Density)
footprint TI-KTT5_M (DPAK, 5-Leads, Body 10.16x8.925mm, Pitch 1.7mm, IPC Low Density)
pins: 1 ~{EN} (in), 2 IN (power), 3 GND (power), 4 OUT (power), 5 NC, 6 GND (power)
text: COM

## TL751M12QKVURQ1
designator U?
Single Output Automotive LDO, 750 mA, Fixed 12 V Output, 13 to 26 V Input, 5-pin PFM (KVU), -40 to 125 degC, Green (RoHS & no Sb/Br); Manufacturer: Texas Instruments; PartNumber: TL751M12QKVURQ1; Fixed Output Options(V): 12; Iout(Max)(A): 0.75; Iq(Typ)(mA): 60; SubFamily: Single Channel LDO; Vdo(Typ)(mV): 650; Vin(Max)(V): 26; Vin(Min)(V): 13; DatasheetVersion: SGLS312J; PackageVersion: 4205521-3/D; PackageReference: KVU5; PackageDescription: 5-Pin Plastic Flange Mount, Body 6.1 x 6.6 mm, Pitch 1.14 mm; Supplier 1: Digi-Key; Supplier Part Number 1: 296-27430-2-ND; Supplier 2: Digi-Key; Supplier Part Number 2: 296-27430-1-ND; Supplier 3: Digi-Key; Supplier Part Number 3: 296-27430-6-ND; Supplier 4: Newark; Supplier Part Number 4: 79R8522; Supplier 5: Mouser; Supplier Part Number 5: 595-TL751M12QKVURQ1; Eco-Plan: Green (RoHS & no Sb/Br); Rating: Automotive; Vout Adj(Max)(V): 12; Vout Adj(Min)(V): 12; Mounting Technology: Surface Mount; Code_JEDEC: TO-252; ComponentLink1Description: Manufacturer URL; ComponentLink1URL: http://www.ti.com/; ComponentLink2Description: Datasheet; ComponentLink2URL: http://www.ti.com/general/docs/lit/getliterature.tsp?genericPartNumber=TL751M12-Q1&fileType=pdf; ComponentLink3Description: Package Specification; ComponentLink3URL: http://www.ti.com/lit/ml/mpsf019/mpsf019.pdf; ComponentLink4Description: URL Link1; ComponentLink4URL: Samples URL:http://www.ti.com/product/tl751m12-q1#samples
footprint TI-KVU5_N (DPAK, 5-Leads, Body 6.6x6.095mm, Pitch 1.14mm, IPC Medium Density)
footprint TI-KVU5_L (DPAK, 5-Leads, Body 6.6x6.095mm, Pitch 1.14mm, IPC High Density)
footprint TI-KVU5_M (DPAK, 5-Leads, Body 6.6x6.095mm, Pitch 1.14mm, IPC Low Density)
pins: 1 ~{EN} (in), 2 IN (power), 4 OUT (power), 5 NC, 6 COM (power)

## TL760M33QKTTRQ1
designator U?
Single Output Automotive LDO, 500 mA, Fixed 3.3 V Output, 3.8 to 26 V Input, 3-pin DDPAK (KTT), -40 to 125 degC, Green (RoHS & no Sb/Br); Manufacturer: Texas Instruments; PartNumber: TL760M33QKTTRQ1; Accuracy(%): 3; Fixed Output Options(V): 3.3; Iout(Max)(A): 0.5; Iq(Typ)(mA): 20; SubFamily: Single Channel LDO; Vdo(Typ)(mV): 500; Vin(Max)(V): 26; Vin(Min)(V): 3.8; DatasheetVersion: SGLS284I; PackageVersion: 4200577-2/F; PackageReference: KTT3; PackageDescription: 3-Pin Plastic Flange Mount, Body 10.16 x 10.43 mm, Pitch 2.54 mm; Supplier 1: Digi-Key; Supplier Part Number 1: 296-21854-2-ND; Supplier 2: Digi-Key; Supplier Part Number 2: 296-21854-1-ND; Supplier 3: Newark; Supplier Part Number 3: 14M2438; Supplier 4: Mouser; Supplier Part Number 4: 595-TL760M33QKTTRQ1; Eco-Plan: Green (RoHS & no Sb/Br); Rating: Automotive; Vout Adj(Max)(V): 3.3; Vout Adj(Min)(V): 3.3; Mounting Technology: Surface Mount; Code_JEDEC: TO-263; ComponentLink1Description: Manufacturer URL; ComponentLink1URL: http://www.ti.com/; ComponentLink2Description: Datasheet; ComponentLink2URL: http://www.ti.com/general/docs/lit/getliterature.tsp?genericPartNumber=TL760M33-Q1&fileType=pdf; ComponentLink3Description: Package Specification; ComponentLink3URL: http://www.ti.com/litv/pdf/mpsf006e; ComponentLink4Description: URL Link1; ComponentLink4URL: Samples URL:http://www.ti.com/product/tl760m33-q1#samples
footprint TI-KTT3_N (DPAK, 3-Leads, Body 10.16x9.015mm, Pitch 2.54mm, IPC Medium Density)
footprint TI-KTT3_L (DPAK, 3-Leads, Body 10.16x9.015mm, Pitch 2.54mm, IPC High Density)
footprint TI-KTT3_M (DPAK, 3-Leads, Body 10.16x9.015mm, Pitch 2.54mm, IPC Low Density)
pins: 1 IN (power), 2 GND (power), 3 OUT (power), 4 GND (power)

## TL760M33QKVURQ1
designator U?
Single Output Automotive LDO, 500 mA, Fixed 3.3 V Output, 3.8 to 26 V Input, 3-pin PFM (KVU), -40 to 125 degC, Green (RoHS & no Sb/Br); Manufacturer: Texas Instruments; PartNumber: TL760M33QKVURQ1; Accuracy(%): 3; Fixed Output Options(V): 3.3; Iout(Max)(A): 0.5; Iq(Typ)(mA): 20; SubFamily: Single Channel LDO; Vdo(Typ)(mV): 500; Vin(Max)(V): 26; Vin(Min)(V): 3.8; DatasheetVersion: SGLS284I; PackageVersion: 4205521-2/D; PackageReference: KVU3; PackageDescription: 3-Pin Plastic Flange Mount, Body 6.1 x 6.6 mm, Pitch 2.29 mm; Supplier 1: Digi-Key; Supplier Part Number 1: 296-27620-2-ND; Supplier 2: Digi-Key; Supplier Part Number 2: 296-27620-1-ND; Supplier 3: Digi-Key; Supplier Part Number 3: 296-27620-6-ND; Supplier 4: Newark; Supplier Part Number 4: 25R0013; Supplier 5: Mouser; Supplier Part Number 5: 595-TL760M33QKVURQ1; Eco-Plan: Green (RoHS & no Sb/Br); Rating: Automotive; Vout Adj(Max)(V): 3.3; Vout Adj(Min)(V): 3.3; Mounting Technology: Surface Mount; Code_JEDEC: TO-252; ComponentLink1Description: Manufacturer URL; ComponentLink1URL: http://www.ti.com/; ComponentLink2Description: Datasheet; ComponentLink2URL: http://www.ti.com/general/docs/lit/getliterature.tsp?genericPartNumber=TL760M33-Q1&fileType=pdf; ComponentLink3Description: Package Specification; ComponentLink3URL: http://www.ti.com/litv/pdf/mpsf018c; ComponentLink4Description: URL Link1; ComponentLink4URL: Samples URL:http://www.ti.com/product/tl760m33-q1#samples
footprint TI-KVU3_N (DPAK, 3-Leads, Body 6.6x6.1mm, Pitch 2.29mm, IPC Medium Density)
footprint TI-KVU3_L (DPAK, 3-Leads, Body 6.6x6.1mm, Pitch 2.29mm, IPC High Density)
footprint TI-KVU3_M (DPAK, 3-Leads, Body 6.6x6.1mm, Pitch 2.29mm, IPC Low Density)
pins: 1 IN (power) "Input voltage. Connect to ground as close to device as possible, through a ceramic capacitor.", 3 OUT (power) "Output. Connect to ground with >=22-uF capacitor, ESR < 5 Ohm at 10 kHz.", 4 GND (power) "Ground. Internally connected to heatsink"

## TL1963A-15DCQR
designator U?
Single Output Low Noise LDO, 1.5 A, Fixed 1.5 V Output, 2.1 to 20 V Input, 6-pin SOT-223 (DCQ), -40 to 125 degC, Green (RoHS & no Sb/Br); Manufacturer: Texas Instruments; PartNumber: TL1963A-15DCQR; Accuracy(%): 3; Fixed Output Options(V): 1.5; Iq(Typ)(mA): 1; SubFamily: Single Channel LDO; Vdo(Typ)(mV): 340; Vin(Max)(V): 20; Vin(Min)(V): 2.1; DatasheetVersion: SLVS719F; PackageVersion: 4202109/D; PackageReference: DCQ6; PackageDescription: 6-Pin Plastic Small Outline, Body 3.5 x 6.5 mm, Pitch 1.27 mm; Supplier 1: Digi-Key; Supplier Part Number 1: 296-24531-2-ND; Supplier 2: Digi-Key; Supplier Part Number 2: 296-24531-1-ND; Supplier 3: Digi-Key; Supplier Part Number 3: 296-24531-6-ND; Supplier 4: Newark; Supplier Part Number 4: 25R0007; Supplier 5: Mouser; Supplier Part Number 5: 595-TL1963A-15DCQR; Eco-Plan: Green (RoHS & no Sb/Br); Iout(Max)(A): 1.5; Vout Adj(Max)(V): 1.5; Vout Adj(Min)(V): 1.5; Mounting Technology: Surface Mount; ComponentLink1Description: Manufacturer URL; ComponentLink1URL: http://www.ti.com/; ComponentLink2Description: Datasheet; ComponentLink2URL: http://www.ti.com/general/docs/lit/getliterature.tsp?genericPartNumber=TL1963A-15&fileType=pdf; ComponentLink3Description: Package Specification; ComponentLink3URL: http://www.ti.com/litv/pdf/mpds098c
footprint TI-DCQ6_N (SOT223, 6-Leads, Body 6.5x3.5mm, Pitch 1.27mm, IPC Medium Density)
footprint TI-DCQ6_L (SOT223, 6-Leads, Body 6.5x3.5mm, Pitch 1.27mm, IPC High Density)
footprint TI-DCQ6_M (SOT223, 6-Leads, Body 6.5x3.5mm, Pitch 1.27mm, IPC Low Density)
pins: 1 ~{SHDN} (in) "Shutdown. S\H\D\N\ is used to put the TPS7A45xx regulators into a low-power shutdown state. The output is off when S\H\D\N\ is pulled low. S\H\D\N\ can be driven by 5-V logic, 3-V logic or open-collector logic with a pullup  (See Datasheet)", 2 IN (power) "Input. Power is supplied to the device through IN. A bypass capacitor is required on this pin if the device is more than six inches away from the main input filter capacitor. In general, the output impedance of a battery (See Datasheet)", 3 GND (power) "Ground", 4 OUT (power) "Output. The output supplies power to the load. A minimum output capacitor (ceramic) of 10 uF is required to  prevent oscillations. Larger output capacitors are required for applications with large transient loads to limit (See Datasheet)", 5 SENSE (in) "Sense. For fixed-voltage versions (TPS7A4515, TPS7A4518, TPS7A4525, and TPS7A4533), SENSE is the input to the error amplifier. Optimum regulation is obtained at the point where SENSE is connected to the OUT pin of the (See Datasheet)", 6 GND (power) "Ground. DCQ package only."

## TL1963A-15DCQT
designator U?
Single Output Low Noise LDO, 1.5 A, Fixed 1.5 V Output, 2.1 to 20 V Input, 6-pin SOT-223 (DCQ), Green (RoHS & no Sb/Br); Manufacturer: Texas Instruments; PartNumber: TL1963A-15DCQT; Accuracy(%): 3; Fixed Output Options(V): 1.5; Iq(Typ)(mA): 1; SubFamily: Single Channel LDO; Vdo(Typ)(mV): 340; Vin(Max)(V): 20; Vin(Min)(V): 2.1; DatasheetVersion: SLVS719F; PackageVersion: 4202109/D; PackageReference: DCQ6; PackageDescription: 6-Pin Plastic Small Outline, Body 3.5 x 6.5 mm, Pitch 1.27 mm; Supplier 1: Digi-Key; Supplier Part Number 1: TL1963A-15DCQT-ND; Supplier 2: Newark; Supplier Part Number 2: 55R7469; Supplier 3: Mouser; Supplier Part Number 3: 595-TL1963A-15DCQT; Eco-Plan: Green (RoHS & no Sb/Br); Iout(Max)(A): 1.5; Vout Adj(Max)(V): 1.5; Vout Adj(Min)(V): 1.5; Mounting Technology: Surface Mount; ComponentLink1Description: Manufacturer URL; ComponentLink1URL: http://www.ti.com/; ComponentLink2Description: Datasheet; ComponentLink2URL: http://www.ti.com/general/docs/lit/getliterature.tsp?genericPartNumber=TL1963A-15&fileType=pdf; ComponentLink3Description: Package Specification; ComponentLink3URL: http://www.ti.com/litv/pdf/mpds098c
footprint TI-DCQ6_N (SOT223, 6-Leads, Body 6.5x3.5mm, Pitch 1.27mm, IPC Medium Density)
footprint TI-DCQ6_L (SOT223, 6-Leads, Body 6.5x3.5mm, Pitch 1.27mm, IPC High Density)
footprint TI-DCQ6_M (SOT223, 6-Leads, Body 6.5x3.5mm, Pitch 1.27mm, IPC Low Density)
pins: 1 ~{SHDN} (in) "Shutdown. S\H\D\N\ is used to put the TPS7A45xx regulators into a low-power shutdown state. The output is off when S\H\D\N\ is pulled low. S\H\D\N\ can be driven by 5-V logic, 3-V logic or open-collector logic with a pullup  (See Datasheet)", 2 IN (power) "Input. Power is supplied to the device through IN. A bypass capacitor is required on this pin if the device is more than six inches away from the main input filter capacitor. In general, the output impedance of a battery (See Datasheet)", 3 GND (power) "Ground", 4 OUT (power) "Output. The output supplies power to the load. A minimum output capacitor (ceramic) of 10 uF is required to  prevent oscillations. Larger output capacitors are required for applications with large transient loads to limit (See Datasheet)", 5 SENSE (in) "Sense. For fixed-voltage versions (TPS7A4515, TPS7A4518, TPS7A4525, and TPS7A4533), SENSE is the input to the error amplifier. Optimum regulation is obtained at the point where SENSE is connected to the OUT pin of the (See Datasheet)", 6 GND (power) "Ground. DCQ package only."

## TL1963A-15DCYR
designator U?
Single Output Low Noise LDO, 1.5 A, Fixed 1.5 V Output, 2.1 to 20 V Input, 4-pin SOT-223 (DCY), -40 to 125 degC, Green (RoHS & no Sb/Br); Manufacturer: Texas Instruments; PartNumber: TL1963A-15DCYR; Accuracy(%): 3; Fixed Output Options(V): 1.5; Iq(Typ)(mA): 1; SubFamily: Single Channel LDO; Vdo(Typ)(mV): 340; Vin(Max)(V): 20; Vin(Min)(V): 2.1; DatasheetVersion: SLVS719F; PackageVersion: 4202506/B; PackageReference: DCY4; PackageDescription: 4-Pin Plastic Small Outline, Body 3.5 x 6.5 mm, Pitch 2.3 mm; Supplier 1: Digi-Key; Supplier Part Number 1: 296-24894-2-ND; Supplier 2: Digi-Key; Supplier Part Number 2: 296-24894-1-ND; Supplier 3: Digi-Key; Supplier Part Number 3: 296-24894-6-ND; Supplier 4: Mouser; Supplier Part Number 4: 595-TL1963A-15DCYR; Eco-Plan: Green (RoHS & no Sb/Br); Iout(Max)(A): 1.5; Vout Adj(Max)(V): 1.5; Vout Adj(Min)(V): 1.5; Mounting Technology: Surface Mount; Code_JEDEC: TO-261; ComponentLink1Description: Manufacturer URL; ComponentLink1URL: http://www.ti.com/; ComponentLink2Description: Datasheet; ComponentLink2URL: http://www.ti.com/general/docs/lit/getliterature.tsp?genericPartNumber=TL1963A-15&fileType=pdf; ComponentLink3Description: Package Specification; ComponentLink3URL: http://www.ti.com/litv/pdf/mpds094a
footprint TI-DCY4_N (SOT223, 4-Leads, Body 6.5x3.5mm, Pitch 2.3mm, IPC Medium Density)
footprint TI-DCY4_L (SOT223, 4-Leads, Body 6.5x3.5mm, Pitch 2.3mm, IPC High Density)
footprint TI-DCY4_M (SOT223, 4-Leads, Body 6.5x3.5mm, Pitch 2.3mm, IPC Low Density)
pins: 1 IN (power) "Input. Power is supplied to the device through the IN pin. A bypass capacitor is required on this pin if the device is more than six inches away from the main input filter capacitor. In general, the output impedance of a (See Datasheet)", 2 GND (power) "Ground", 3 OUT (power) "Output. The output supplies power to the load. A minimum output capacitor (ceramic) of 10 uF is required to prevent oscillations. Larger output capacitors are required for applications with large transient loads to limit (See Datasheet)", 4 GND (power) "Ground"